# Altium schematic symbol library BB-HEADER-P08-P14.SchLib: 1 symbol
Pins are listed as number, name and electrical type; pins without a type are passive.

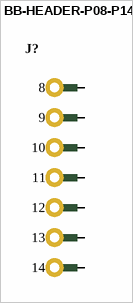
[diagram p0: symbol BB-HEADER-P08-P14]

## BB-HEADER-P08-P14
designator J?  (value not drawn)
BB Header, Vertical, Male, 0.1", 2.54mm, P08-P14
pins: 8, 9, 10, 11, 12, 13, 14